# EAGLE library part NEO-7M-0 (library NEO-7M-0)
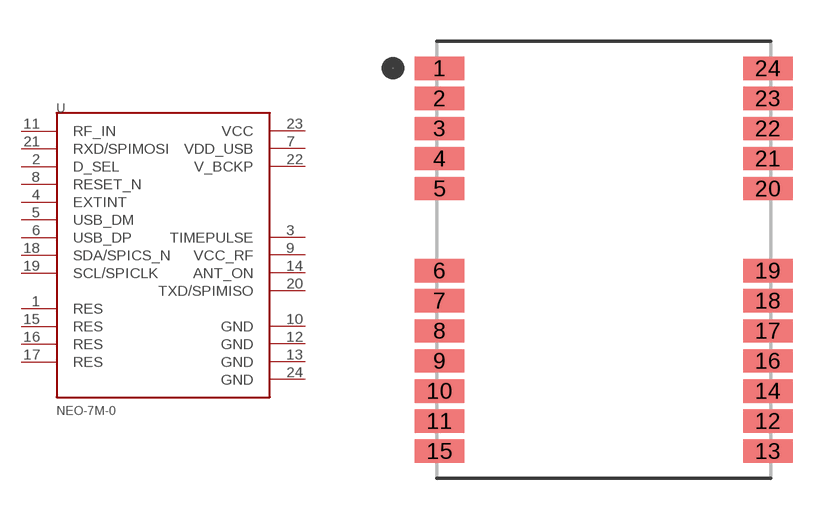
[diagram p0: symbol with the pads of XCVR_NEO-7M-0; footprint XCVR_NEO-7M-0]

Designator prefix U

## NEO-7M-0 (Availability: Unavailable; Description: u-blox 7 GPS/GNSS Module*Crystal*ROM*12x16mm; MF: u-blox; MP: NEO-7M-0; Package: None; Price: None)  [XCVR_NEO-7M-0]
1  RES  in
2  D_SEL  in
3  TIMEPULSE  out
4  EXTINT
5  USB_DM
6  USB_DP
7  VDD_USB  pwr
8  RESET_N  in
9  VCC_RF  out
10  GND  pwr
11  RF_IN  in
12  GND  pwr
13  GND  pwr
14  ANT_ON  out
15  RES  in
16  RES  in
17  RES  in
18  SDA/SPICS_N
19  SCL/SPICLK
20  TXD/SPIMISO  out
21  RXD/SPIMOSI  in
22  V_BCKP  pwr
23  VCC  pwr
24  GND  pwr

## Footprint XCVR_NEO-7M-0 (pad centres in mm)
smd 1.8 x 0.85: 1 -6,7; 2 -6,5.9; 3 -6,4.8; 4 -6,3.7; 5 -6,2.6; 6 -6,-0.4; 7 -6,-1.5; 8 -6,-2.6; 9 -6,-3.7; 10 -6,-4.8; 11 -6,-5.9; 12 6,-5.9; 13 6,-7; 14 6,-4.8; 15 -6,-7; 16 6,-3.7; 17 6,-2.6; 18 6,-1.5; 19 6,-0.4; 20 6,2.6; 21 6,3.7; 22 6,4.8; 23 6,5.9; 24 6,7